# Altium schematic symbol library LMG3410R050.SchLib: 1 symbol
Pins are listed as number, name and electrical type; pins without a type are passive.

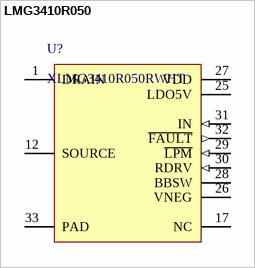
[diagram p0: symbol LMG3410R050]

## LMG3410R050
designator U?, comment XLMG3410R050RWHT
LMG3410R050 600-V 50mΩ GaN with integrated driver and protection
pins: 1 DRAIN (power), 2 DRAIN (power), 3 DRAIN (power), 4 DRAIN (power), 5 DRAIN (power), 6 DRAIN (power), 7 DRAIN (power), 8 DRAIN (power), 9 DRAIN (power), 10 DRAIN (power), 11 DRAIN (power), 12 SOURCE (power), 13 SOURCE (power), 14 SOURCE (power), 15 SOURCE (power), 16 SOURCE (power), 17 NC (hiz), 18 SOURCE (power), 19 SOURCE (power), 20 SOURCE (power), 21 SOURCE (power), 22 SOURCE (power), 23 SOURCE (power), 24 SOURCE (power), 25 LDO5V (power), 26 VNEG (power), 27 VDD (power), 28 BBSW (power), 29 ~{LPM} (in), 30 RDRV (in), 31 IN (in), 32 ~{FAULT} (out), 33 PAD (power)